# Altium footprint library CC1206JRNPO9BN150.PcbLib: 3 footprints
Each footprint in its own frame and in the unit in brackets; x right, y up, seen from the top. Pads: shape width x height; smd on the part's side, far side on the other; paste and mask are expansions set on the pad; w line width, h text height; cw(c..) or ccw(c..) is an arc to the next point about the centre after c.
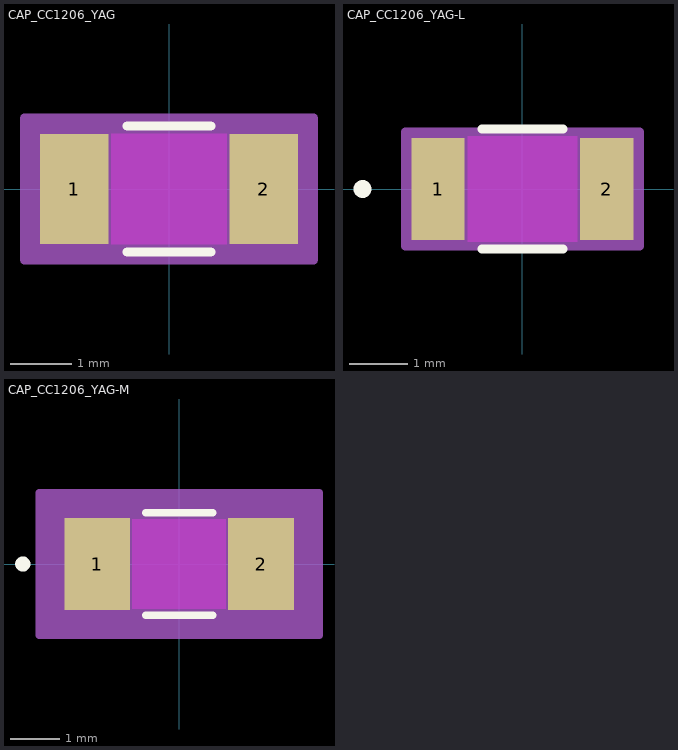
[diagram p0: the footprints below, top view; thin cyan lines are the x and y axes]

## CAP_CC1206_YAG [mil]
pads (2):
  rect 44x71 smd paste+0 mask+0: 1(-61,0) 2(61,0)
Top Layer keep-out:
  region: -37,-33.5 -37,33.5 37,33.5 37,-33.5
Top Overlay:
  lines w6: -26.89,-40.5 26.89,-40.5 ; -26.89,40.5 26.89,40.5
Keep-Out Layer:
  region: -37,-35.5 -37,35.5 37,35.5 37,-35.5
Mechanical 13:
  circle w0: c-56,0 r0
  lines w1: -69,-35.5 -69,35.5 ; -69,-35.5 -39,-35.5 -39,35.5 -69,35.5 ; -69,-35.5 69,-35.5 ; -69,-35.5 -69,35.5 ; -69,35.5 69,35.5 ; 69,-35.5 39,-35.5 39,35.5 69,35.5 ; 69,-35.5 69,35.5 ; 69,-35.5 69,35.5
Mechanical 15:
  region: 93,-45.5 -93,-45.5 -93,45.5 93,45.5
  lines w6: -93,-45.5 -93,45.5 93,45.5 93,-45.5 -93,-45.5
3D body "CAP_CC1206_YAG.step": height 70.98, standoff 0, extent -69.02,-35.51 69.02,35.51

## CAP_CC1206_YAG-L [mil]
pads (2):
  rect 36x69 smd paste+0 mask+0: 1(-57,0) 2(57,0)
Top Layer keep-out:
  region: -37,-33.5 -37,33.5 37,33.5 37,-33.5
Top Overlay:
  circle w6: c-108,0 r3
  lines w6: -27.35,-40.5 27.35,-40.5 ; -27.35,40.5 27.35,40.5
Keep-Out Layer:
  region: -37,-35.5 -37,35.5 37,35.5 37,-35.5
Mechanical 13:
  circle w0: c-52,0 r3
  lines w1: -69,-35.5 -69,35.5 ; -69,-35.5 -39,-35.5 -39,35.5 -69,35.5 ; -69,-35.5 69,-35.5 ; -69,-35.5 -69,35.5 ; -69,35.5 69,35.5 ; 69,-35.5 39,-35.5 39,35.5 69,35.5 ; 69,-35.5 69,35.5 ; 69,-35.5 69,35.5
Mechanical 15:
  region: 79,-38.5 -79,-38.5 -79,38.5 79,38.5
  lines w6: -79,-38.5 -79,38.5 79,38.5 79,-38.5 -79,-38.5
3D body "CAP_CC1206_YAG.step": height 70.98, standoff 0, extent -69.02,-35.51 69.02,35.51

## CAP_CC1206_YAG-M [mil]
pads (2):
  rect 52x73 smd paste+0 mask+0: 1(-65,0) 2(65,0)
Top Layer keep-out:
  region: -37,-33.5 -37,33.5 37,33.5 37,-33.5
Top Overlay:
  circle w6: c-124,0 r3
  lines w6: -26.53,-40.5 26.53,-40.5 ; -26.53,40.5 26.53,40.5
Keep-Out Layer:
  region: -37,-35.5 -37,35.5 37,35.5 37,-35.5
Mechanical 13:
  circle w0: c-60,0 r3
  lines w1: -69,-35.5 -69,35.5 ; -69,-35.5 -39,-35.5 -39,35.5 -69,35.5 ; -69,-35.5 69,-35.5 ; -69,-35.5 -69,35.5 ; -69,35.5 69,35.5 ; 69,-35.5 39,-35.5 39,35.5 69,35.5 ; 69,-35.5 69,35.5 ; 69,-35.5 69,35.5
Mechanical 15:
  region: 111,-56.5 -111,-56.5 -111,56.5 111,56.5
  lines w6: -111,-56.5 -111,56.5 111,56.5 111,-56.5 -111,-56.5
3D body "CAP_CC1206_YAG.step": height 70.98, standoff 0, extent -69.02,-35.51 69.02,35.51